# EAGLE library part 691322310010 (library Wurth_Elektronik_Electromechanic_Terminal_Blocks_Connectors_rev16b)
WR-TBL Serie 322 - 3.81mm Vertical PCB Header , 10 Pins=>Code : Con_TBL_Pluggable_3.81_PCB_THT_Simple_691322310010 <http://katalog.we-online.de/media/images/eican/Con_TBL_Pluggable_3.81_PCB_THT_Simple_6913223100xx_pf2.jpg> Details see: http://katalog.we-online.de/en/em/691_322_310_0xx Created 2014-06-19, Karrer Zheng 2014 (C) Würth Elektronik
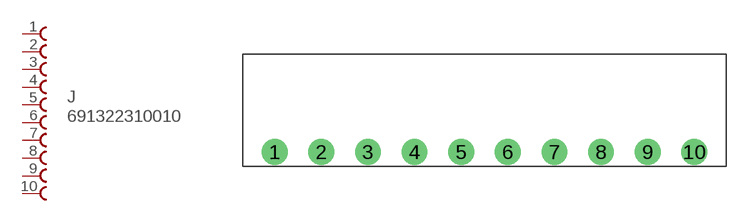
[diagram p41: symbol with the pads of 691322310010; footprint 691322310010]

Designator prefix J

## 691322310010  [691322310010]
1  1  pas
2  2  pas
3  3  pas
4  4  pas
5  5  pas
6  6  pas
7  7  pas
8  8  pas
9  9  pas
10  10  pas

## Footprint 691322310010 (pad centres in mm)
WR-TBL Serie 322 - 3.81mm Vertical PCB Header , 10 Pins
drill 1.4: 1 -19.05,0; 2 -15.24,0; 3 -11.43,0; 4 -7.62,0; 5 -3.81,0; 6 0,0; 7 3.81,0; 8 7.62,0; 9 11.43,0; 10 15.24,0